# Altium schematic symbol library WR-PHD_Socket Header_2.54mm.SchLib: 187 symbols (part 1 of 4)
Pins are listed as number, name and electrical type; pins without a type are passive.

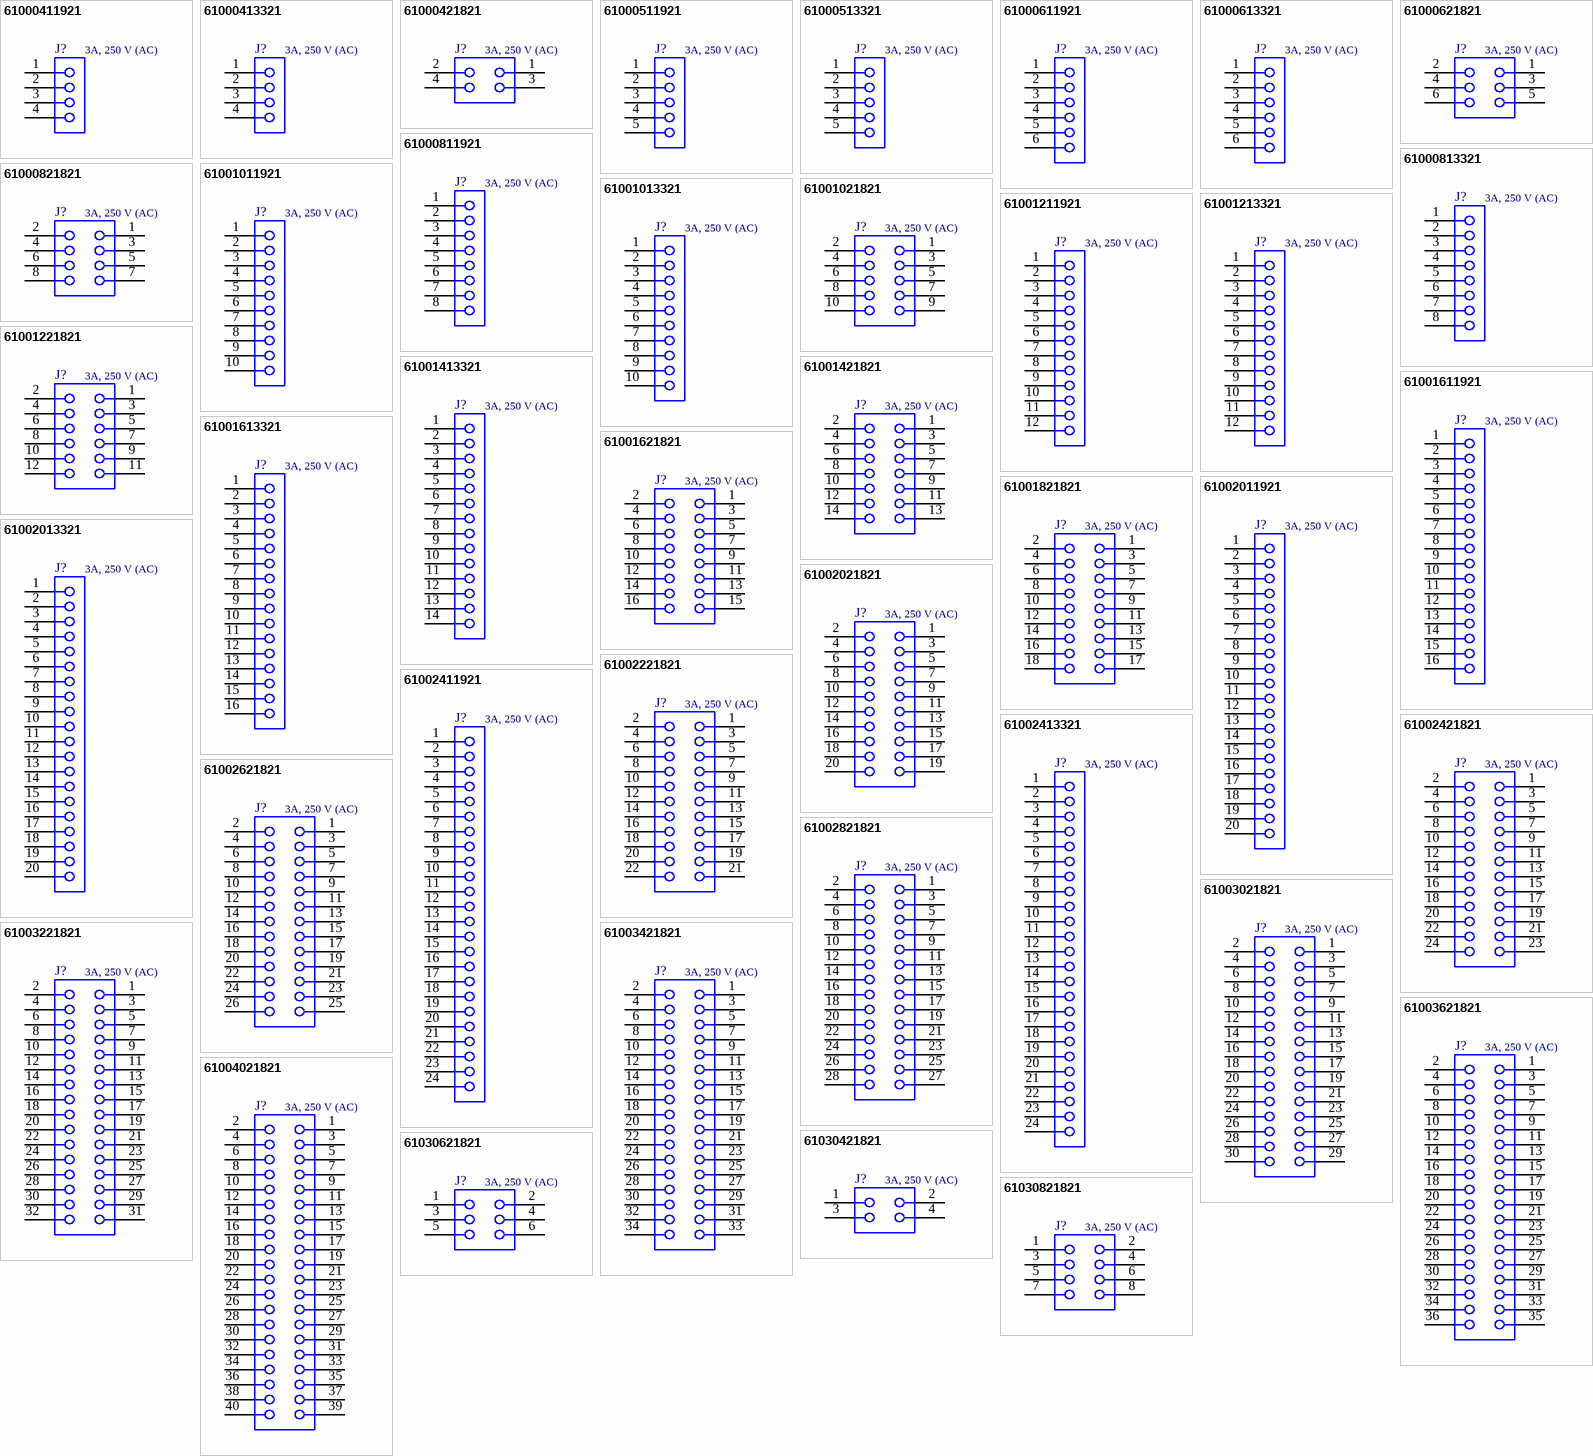
[diagram p0: symbols 61000411921 to 61030821821]

## 61000411921
designator J?, comment 3A, 250 V (AC)
WR-PHD Socket Header, SMT, pitch 2.54mm, Single Row, Vertical, 4p; Manufacturer Part Number: 61000411921; Manufacturer: Wurth Elektronik; Pin Number: 4; Working Voltage: 250VAC; Withstanding Voltage: 500VAC; Contact Resistance: 20mOhm; ComponentLink1Description: Datasheet; ComponentLink1URL: https://www.we-online.com/catalog/datasheet/61000411921.pdf; Pitch: 2.54mm; Packaging: Tube; Gender: Socket Header; Rated Current: 3A; Row Number: Single; Orientation: Vertical; Supplier 1 URL: N/A; Supplier 2 URL: N/A; Supplier 3 URL: N/A; Mount: SMD/SMT; Operating Temperature Max: + 85 C; Operating Temperature Min: - 25 C; Supplier 1: Mouser; Supplier 1 Part Number: N/A; Supplier 2: Digi-Key; Supplier 2 Part Number: N/A; Supplier 3: thegioiic; Supplier 3 Part Number: N/A; Value: 3A, 250 V (AC); LCSC Part #: N/A
footprint 61000411921
pins: 1, 2, 3, 4

## 61000413321
designator J?, comment 3A, 250 V (AC)
WR-PHD Socket Header, SMT, pitch 2.54mm, Single Row, Vertical, 4p; Manufacturer Part Number: 61000413321; Manufacturer: Wurth Elektronik; Pin Number: 4; Working Voltage: 250VAC; Withstanding Voltage: 500VAC; Contact Resistance: 20mOhm; ComponentLink1Description: Datasheet; ComponentLink1URL: https://www.we-online.com/catalog/datasheet/61000413321.pdf; Pitch: 2.54mm; Packaging: Tube; Gender: Socket Header; Rated Current: 3A; Row Number: Single; Orientation: Vertical; Supplier 1 URL: N/A; Supplier 2 URL: N/A; Supplier 3 URL: N/A; Mount: SMD/SMT; Operating Temperature Max: + 85 C; Operating Temperature Min: - 25 C; Supplier 1: Mouser; Supplier 1 Part Number: N/A; Supplier 2: Digi-Key; Supplier 2 Part Number: N/A; Supplier 3: thegioiic; Supplier 3 Part Number: N/A; Value: 3A, 250 V (AC); LCSC Part #: N/A
footprint 61000413321
pins: 1, 2, 3, 4

## 61000421821
designator J?, comment 3A, 250 V (AC)
WR-PHD Socket Header, SMT, pitch 2.54mm, Dual Row, Vertical, 4p; Manufacturer Part Number: 61000421821; Manufacturer: Wurth Elektronik; Pin Number: 4; Working Voltage: 250VAC; Withstanding Voltage: 600VAC; Contact Resistance: 20mOhm; ComponentLink1Description: Datasheet; ComponentLink1URL: https://www.we-online.com/catalog/datasheet/61000421821.pdf; Pitch: 2.54mm; Packaging: Tube; Gender: Socket Header; Rated Current: 3A; Row Number: Dual; Orientation: Vertical; Supplier 1 URL: https://www.mouser.vn/ProductDetail/Wurth-Elektronik/61000421821?qs=ulEaXIWI0c%2F%252BuIEt%2FF6jcQ%3D%3D; Supplier 2 URL: N/A; Supplier 3 URL: https://www.thegioiic.com/hang-rao-cai-doi-2-54mm-4-chan-2-hang-smd; Mount: SMD/SMT; Operating Temperature Max: + 85 C; Operating Temperature Min: - 25 C; Supplier 1: Mouser; Supplier 1 Part Number: 710-61000421821; Supplier 2: Digi-Key; Supplier 2 Part Number: N/A; Supplier 3: thegioiic; Supplier 3 Part Number: N/A; Value: 3A, 250 V (AC); LCSC Part #: N/A
footprint 61000421821
pins: 1, 2, 3, 4

## 61000511921
designator J?, comment 3A, 250 V (AC)
WR-PHD Socket Header, SMT, pitch 2.54mm, Single Row, Vertical, 5p; Manufacturer Part Number: 61000511921; Manufacturer: Wurth Elektronik; Pin Number: 5; Working Voltage: 250VAC; Withstanding Voltage: 500VAC; Contact Resistance: 20mOhm; ComponentLink1Description: Datasheet; ComponentLink1URL: https://www.we-online.com/catalog/datasheet/61000511921.pdf; Pitch: 2.54mm; Packaging: Tube; Gender: Socket Header; Rated Current: 3A; Row Number: Single; Orientation: Vertical; Supplier 1 URL: N/A; Supplier 2 URL: N/A; Supplier 3 URL: N/A; Mount: SMD/SMT; Operating Temperature Max: + 85 C; Operating Temperature Min: - 25 C; Supplier 1: Mouser; Supplier 1 Part Number: N/A; Supplier 2: Digi-Key; Supplier 2 Part Number: N/A; Supplier 3: thegioiic; Supplier 3 Part Number: N/A; Value: 3A, 250 V (AC); LCSC Part #: N/A
footprint 61000511921
pins: 1, 2, 3, 4, 5

## 61000513321
designator J?, comment 3A, 250 V (AC)
WR-PHD Socket Header, SMT, pitch 2.54mm, Single Row, Vertical, 5p; Manufacturer Part Number: 61000513321; Manufacturer: Wurth Elektronik; Pin Number: 5; Working Voltage: 250VAC; Withstanding Voltage: 500VAC; Contact Resistance: 20mOhm; ComponentLink1Description: Datasheet; ComponentLink1URL: https://www.we-online.com/catalog/datasheet/61000513321.pdf; Pitch: 2.54mm; Packaging: Tube; Gender: Socket Header; Rated Current: 3A; Row Number: Single; Orientation: Vertical; Supplier 1 URL: N/A; Supplier 2 URL: N/A; Supplier 3 URL: N/A; Mount: SMD/SMT; Operating Temperature Max: + 85 C; Operating Temperature Min: - 25 C; Supplier 1: Mouser; Supplier 1 Part Number: N/A; Supplier 2: Digi-Key; Supplier 2 Part Number: N/A; Supplier 3: thegioiic; Supplier 3 Part Number: N/A; Value: 3A, 250 V (AC); LCSC Part #: N/A
footprint 61000513321
pins: 1, 2, 3, 4, 5

## 61000611921
designator J?, comment 3A, 250 V (AC)
WR-PHD Socket Header, SMT, pitch 2.54mm, Single Row, Vertical, 6p; Manufacturer Part Number: 61000611921; Manufacturer: Wurth Elektronik; Pin Number: 6; Working Voltage: 250VAC; Withstanding Voltage: 500VAC; Contact Resistance: 20mOhm; ComponentLink1Description: Datasheet; ComponentLink1URL: https://www.we-online.com/catalog/datasheet/61000611921.pdf; Pitch: 2.54mm; Packaging: Tube; Gender: Socket Header; Rated Current: 3A; Row Number: Single; Orientation: Vertical; Supplier 1 URL: N/A; Supplier 2 URL: N/A; Supplier 3 URL: N/A; Mount: SMD/SMT; Operating Temperature Max: + 85 C; Operating Temperature Min: - 25 C; Supplier 1: Mouser; Supplier 1 Part Number: N/A; Supplier 2: Digi-Key; Supplier 2 Part Number: N/A; Supplier 3: thegioiic; Supplier 3 Part Number: N/A; Value: 3A, 250 V (AC); LCSC Part #: N/A
footprint 61000611921
pins: 1, 2, 3, 4, 5, 6

## 61000613321
designator J?, comment 3A, 250 V (AC)
WR-PHD Socket Header, SMT, pitch 2.54mm, Single Row, Vertical, 6p; Manufacturer Part Number: 61000613321; Manufacturer: Wurth Elektronik; Pin Number: 6; Working Voltage: 250VAC; Withstanding Voltage: 500VAC; Contact Resistance: 20mOhm; ComponentLink1Description: Datasheet; ComponentLink1URL: https://www.we-online.com/catalog/datasheet/61000613321.pdf; Pitch: 2.54mm; Packaging: Tube; Gender: Socket Header; Rated Current: 3A; Row Number: Single; Orientation: Vertical; Supplier 1 URL: N/A; Supplier 2 URL: N/A; Supplier 3 URL: N/A; Mount: SMD/SMT; Operating Temperature Max: + 85 C; Operating Temperature Min: - 25 C; Supplier 1: Mouser; Supplier 1 Part Number: N/A; Supplier 2: Digi-Key; Supplier 2 Part Number: N/A; Supplier 3: thegioiic; Supplier 3 Part Number: N/A; Value: 3A, 250 V (AC); LCSC Part #: N/A
footprint 61000613321
pins: 1, 2, 3, 4, 5, 6

## 61000621821
designator J?, comment 3A, 250 V (AC)
WR-PHD Socket Header, SMT, pitch 2.54mm, Dual Row, Vertical, 6p; Manufacturer Part Number: 61000621821; Manufacturer: Wurth Elektronik; Pin Number: 6; Working Voltage: 250VAC; Withstanding Voltage: 600VAC; Contact Resistance: 20mOhm; ComponentLink1Description: Datasheet; ComponentLink1URL: https://www.we-online.com/catalog/datasheet/61000621821.pdf; Pitch: 2.54mm; Packaging: Tube; Gender: Socket Header; Rated Current: 3A; Row Number: Dual; Orientation: Vertical; Supplier 1 URL: N/A; Supplier 2 URL: N/A; Supplier 3 URL: https://www.thegioiic.com/hang-rao-cai-doi-2-54mm-6-chan-2-hang-smd; Mount: SMD/SMT; Operating Temperature Max: + 85 C; Operating Temperature Min: - 25 C; Supplier 1: Mouser; Supplier 1 Part Number: N/A; Supplier 2: Digi-Key; Supplier 2 Part Number: N/A; Supplier 3: thegioiic; Supplier 3 Part Number: N/A; Value: 3A, 250 V (AC); LCSC Part #: N/A
footprint 61000621821
pins: 1, 2, 3, 4, 5, 6

## 61000811921
designator J?, comment 3A, 250 V (AC)
WR-PHD Socket Header, SMT, pitch 2.54mm, Single Row, Vertical, 8p; Manufacturer Part Number: 61000811921; Manufacturer: Wurth Elektronik; Pin Number: 8; Working Voltage: 250VAC; Withstanding Voltage: 500VAC; Contact Resistance: 20mOhm; ComponentLink1Description: Datasheet; ComponentLink1URL: https://www.we-online.com/catalog/datasheet/61000811921.pdf; Pitch: 2.54mm; Packaging: Tube; Gender: Socket Header; Rated Current: 3A; Row Number: Single; Orientation: Vertical; Supplier 1 URL: https://www.mouser.vn/ProductDetail/Wurth-Elektronik/61000811921?qs=ulEaXIWI0c%2Fsm97p7isIKw%3D%3D; Supplier 2 URL: N/A; Supplier 3 URL: N/A; Mount: SMD/SMT; Operating Temperature Max: + 85 C; Operating Temperature Min: - 25 C; Supplier 1: Mouser; Supplier 1 Part Number: 710-61000811921; Supplier 2: Digi-Key; Supplier 2 Part Number: N/A; Supplier 3: thegioiic; Supplier 3 Part Number: N/A; Value: 3A, 250 V (AC); LCSC Part #: N/A
footprint 61000811921
pins: 1, 2, 3, 4, 5, 6, 7, 8

## 61000813321
designator J?, comment 3A, 250 V (AC)
WR-PHD Socket Header, SMT, pitch 2.54mm, Single Row, Vertical, 8p; Manufacturer Part Number: 61000813321; Manufacturer: Wurth Elektronik; Pin Number: 8; Working Voltage: 250VAC; Withstanding Voltage: 500VAC; Contact Resistance: 20mOhm; ComponentLink1Description: Datasheet; ComponentLink1URL: https://www.we-online.com/catalog/datasheet/61000813321.pdf; Pitch: 2.54mm; Packaging: Tube; Gender: Socket Header; Rated Current: 3A; Row Number: Single; Orientation: Vertical; Supplier 1 URL: N/A; Supplier 2 URL: N/A; Supplier 3 URL: N/A; Mount: SMD/SMT; Operating Temperature Max: + 85 C; Operating Temperature Min: - 25 C; Supplier 1: Mouser; Supplier 1 Part Number: N/A; Supplier 2: Digi-Key; Supplier 2 Part Number: N/A; Supplier 3: thegioiic; Supplier 3 Part Number: N/A; Value: 3A, 250 V (AC); LCSC Part #: N/A
footprint 61000813321
pins: 1, 2, 3, 4, 5, 6, 7, 8

## 61000821821
designator J?, comment 3A, 250 V (AC)
WR-PHD Socket Header, SMT, pitch 2.54mm, Dual Row, Vertical, 8p; Manufacturer Part Number: 61000821821; Manufacturer: Wurth Elektronik; Pin Number: 8; Working Voltage: 250VAC; Withstanding Voltage: 600VAC; Contact Resistance: 20mOhm; ComponentLink1Description: Datasheet; ComponentLink1URL: https://www.we-online.com/catalog/datasheet/61000821821.pdf; Pitch: 2.54mm; Packaging: Tube; Gender: Socket Header; Rated Current: 3A; Row Number: Dual; Orientation: Vertical; Supplier 1 URL: N/A; Supplier 2 URL: N/A; Supplier 3 URL: https://www.thegioiic.com/hang-rao-cai-doi-2-54mm-8-chan-2-hang-smd; Mount: SMD/SMT; Operating Temperature Max: + 85 C; Operating Temperature Min: - 25 C; Supplier 1: Mouser; Supplier 1 Part Number: N/A; Supplier 2: Digi-Key; Supplier 2 Part Number: N/A; Supplier 3: thegioiic; Supplier 3 Part Number: N/A; Value: 3A, 250 V (AC); LCSC Part #: N/A
footprint 61000821821
pins: 1, 2, 3, 4, 5, 6, 7, 8

## 61001011921
designator J?, comment 3A, 250 V (AC)
WR-PHD Socket Header, SMT, pitch 2.54mm, Single Row, Vertical, 10p; Manufacturer Part Number: 61001011921; Manufacturer: Wurth Elektronik; Pin Number: 10; Working Voltage: 250VAC; Withstanding Voltage: 500VAC; Contact Resistance: 20mOhm; ComponentLink1Description: Datasheet; ComponentLink1URL: https://www.we-online.com/catalog/datasheet/61001011921.pdf; Pitch: 2.54mm; Packaging: Tube; Gender: Socket Header; Rated Current: 3A; Row Number: Single; Orientation: Vertical; Supplier 1 URL: N/A; Supplier 2 URL: N/A; Supplier 3 URL: N/A; Mount: SMD/SMT; Operating Temperature Max: + 85 C; Operating Temperature Min: - 25 C; Supplier 1: Mouser; Supplier 1 Part Number: N/A; Supplier 2: Digi-Key; Supplier 2 Part Number: N/A; Supplier 3: thegioiic; Supplier 3 Part Number: N/A; Value: 3A, 250 V (AC); LCSC Part #: N/A
footprint 61001011921
pins: 1, 2, 3, 4, 5, 6, 7, 8, 9, 10

## 61001013321
designator J?, comment 3A, 250 V (AC)
WR-PHD Socket Header, SMT, pitch 2.54mm, Single Row, Vertical, 10p; Manufacturer Part Number: 61001013321; Manufacturer: Wurth Elektronik; Pin Number: 10; Working Voltage: 250VAC; Withstanding Voltage: 500VAC; Contact Resistance: 20mOhm; ComponentLink1Description: Datasheet; ComponentLink1URL: https://www.we-online.com/catalog/datasheet/61001013321.pdf; Pitch: 2.54mm; Packaging: Tube; Gender: Socket Header; Rated Current: 3A; Row Number: Single; Orientation: Vertical; Supplier 1 URL: N/A; Supplier 2 URL: N/A; Supplier 3 URL: N/A; Mount: SMD/SMT; Operating Temperature Max: + 85 C; Operating Temperature Min: - 25 C; Supplier 1: Mouser; Supplier 1 Part Number: N/A; Supplier 2: Digi-Key; Supplier 2 Part Number: N/A; Supplier 3: thegioiic; Supplier 3 Part Number: N/A; Value: 3A, 250 V (AC); LCSC Part #: N/A
footprint 61001013321
pins: 1, 2, 3, 4, 5, 6, 7, 8, 9, 10

## 61001021821
designator J?, comment 3A, 250 V (AC)
WR-PHD Socket Header, SMT, pitch 2.54mm, Dual Row, Vertical, 10p; Manufacturer Part Number: 61001021821; Manufacturer: Wurth Elektronik; Pin Number: 10; Working Voltage: 250VAC; Withstanding Voltage: 600VAC; Contact Resistance: 20mOhm; ComponentLink1Description: Datasheet; ComponentLink1URL: https://www.we-online.com/catalog/datasheet/61001021821.pdf; Pitch: 2.54mm; Packaging: Tube; Gender: Socket Header; Rated Current: 3A; Row Number: Dual; Orientation: Vertical; Supplier 1 URL: N/A; Supplier 2 URL: N/A; Supplier 3 URL: https://www.thegioiic.com/hang-rao-cai-doi-2-54mm-10-chan-2-hang-smd; Mount: SMD/SMT; Operating Temperature Max: + 85 C; Operating Temperature Min: - 25 C; Supplier 1: Mouser; Supplier 1 Part Number: N/A; Supplier 2: Digi-Key; Supplier 2 Part Number: N/A; Supplier 3: thegioiic; Supplier 3 Part Number: N/A; Value: 3A, 250 V (AC); LCSC Part #: N/A
footprint 61001021821
pins: 1, 2, 3, 4, 5, 6, 7, 8, 9, 10

## 61001211921
designator J?, comment 3A, 250 V (AC)
WR-PHD Socket Header, SMT, pitch 2.54mm, Single Row, Vertical, 12p; Manufacturer Part Number: 61001211921; Manufacturer: Wurth Elektronik; Pin Number: 12; Working Voltage: 250VAC; Withstanding Voltage: 500VAC; Contact Resistance: 20mOhm; ComponentLink1Description: Datasheet; ComponentLink1URL: https://www.we-online.com/catalog/datasheet/61001211921.pdf; Pitch: 2.54mm; Packaging: Tube; Gender: Socket Header; Rated Current: 3A; Row Number: Single; Orientation: Vertical; Supplier 1 URL: N/A; Supplier 2 URL: N/A; Supplier 3 URL: N/A; Mount: SMD/SMT; Operating Temperature Max: + 85 C; Operating Temperature Min: - 25 C; Supplier 1: Mouser; Supplier 1 Part Number: N/A; Supplier 2: Digi-Key; Supplier 2 Part Number: N/A; Supplier 3: thegioiic; Supplier 3 Part Number: N/A; Value: 3A, 250 V (AC); LCSC Part #: N/A
footprint 61001211921
pins: 1, 2, 3, 4, 5, 6, 7, 8, 9, 10, 11, 12

## 61001213321
designator J?, comment 3A, 250 V (AC)
WR-PHD Socket Header, SMT, pitch 2.54mm, Single Row, Vertical, 12p; Manufacturer Part Number: 61001213321; Manufacturer: Wurth Elektronik; Pin Number: 12; Working Voltage: 250VAC; Withstanding Voltage: 500VAC; Contact Resistance: 20mOhm; ComponentLink1Description: Datasheet; ComponentLink1URL: https://www.we-online.com/catalog/datasheet/61001213321.pdf; Pitch: 2.54mm; Packaging: Tube; Gender: Socket Header; Rated Current: 3A; Row Number: Single; Orientation: Vertical; Supplier 1 URL: N/A; Supplier 2 URL: N/A; Supplier 3 URL: N/A; Mount: SMD/SMT; Operating Temperature Max: + 85 C; Operating Temperature Min: - 25 C; Supplier 1: Mouser; Supplier 1 Part Number: N/A; Supplier 2: Digi-Key; Supplier 2 Part Number: N/A; Supplier 3: thegioiic; Supplier 3 Part Number: N/A; Value: 3A, 250 V (AC); LCSC Part #: N/A
footprint 61001213321
pins: 1, 2, 3, 4, 5, 6, 7, 8, 9, 10, 11, 12

## 61001221821
designator J?, comment 3A, 250 V (AC)
WR-PHD Socket Header, SMT, pitch 2.54mm, Dual Row, Vertical, 12p; Manufacturer Part Number: 61001221821; Manufacturer: Wurth Elektronik; Pin Number: 12; Working Voltage: 250VAC; Withstanding Voltage: 600VAC; Contact Resistance: 20mOhm; ComponentLink1Description: Datasheet; ComponentLink1URL: https://www.we-online.com/catalog/datasheet/61001221821.pdf; Pitch: 2.54mm; Packaging: Tube; Gender: Socket Header; Rated Current: 3A; Row Number: Dual; Orientation: Vertical; Supplier 1 URL: N/A; Supplier 2 URL: N/A; Supplier 3 URL: https://www.thegioiic.com/hang-rao-cai-doi-2-54mm-12-chan-2-hang-smd; Mount: SMD/SMT; Operating Temperature Max: + 85 C; Operating Temperature Min: - 25 C; Supplier 1: Mouser; Supplier 1 Part Number: N/A; Supplier 2: Digi-Key; Supplier 2 Part Number: N/A; Supplier 3: thegioiic; Supplier 3 Part Number: N/A; Value: 3A, 250 V (AC); LCSC Part #: N/A
footprint 61001221821
pins: 1, 2, 3, 4, 5, 6, 7, 8, 9, 10, 11, 12

## 61001413321
designator J?, comment 3A, 250 V (AC)
WR-PHD Socket Header, SMT, pitch 2.54mm, Single Row, Vertical, 14p; Manufacturer Part Number: 61001413321; Manufacturer: Wurth Elektronik; Pin Number: 14; Working Voltage: 250VAC; Withstanding Voltage: 500VAC; Contact Resistance: 20mOhm; ComponentLink1Description: Datasheet; ComponentLink1URL: https://www.we-online.com/catalog/datasheet/61001413321.pdf; Pitch: 2.54mm; Packaging: Tube; Gender: Socket Header; Rated Current: 3A; Row Number: Single; Orientation: Vertical; Supplier 1 URL: N/A; Supplier 2 URL: N/A; Supplier 3 URL: N/A; Mount: SMD/SMT; Operating Temperature Max: + 85 C; Operating Temperature Min: - 25 C; Supplier 1: Mouser; Supplier 1 Part Number: N/A; Supplier 2: Digi-Key; Supplier 2 Part Number: N/A; Supplier 3: thegioiic; Supplier 3 Part Number: N/A; Value: 3A, 250 V (AC); LCSC Part #: N/A
footprint 61001413321
pins: 1, 2, 3, 4, 5, 6, 7, 8, 9, 10, 11, 12, 13, 14

## 61001421821
designator J?, comment 3A, 250 V (AC)
WR-PHD Socket Header, SMT, pitch 2.54mm, Dual Row, Vertical, 14p; Manufacturer Part Number: 61001421821; Manufacturer: Wurth Elektronik; Pin Number: 14; Working Voltage: 250VAC; Withstanding Voltage: 600VAC; Contact Resistance: 20mOhm; ComponentLink1Description: Datasheet; ComponentLink1URL: https://www.we-online.com/catalog/datasheet/61001421821.pdf; Pitch: 2.54mm; Packaging: Tube; Gender: Socket Header; Rated Current: 3A; Row Number: Dual; Orientation: Vertical; Supplier 1 URL: N/A; Supplier 2 URL: N/A; Supplier 3 URL: https://www.thegioiic.com/hang-rao-cai-doi-2-54mm-14-chan-2-hang-smd; Mount: SMD/SMT; Operating Temperature Max: + 85 C; Operating Temperature Min: - 25 C; Supplier 1: Mouser; Supplier 1 Part Number: N/A; Supplier 2: Digi-Key; Supplier 2 Part Number: N/A; Supplier 3: thegioiic; Supplier 3 Part Number: N/A; Value: 3A, 250 V (AC); LCSC Part #: N/A
footprint 61001421821
pins: 1, 2, 3, 4, 5, 6, 7, 8, 9, 10, 11, 12, 13, 14

## 61001611921
designator J?, comment 3A, 250 V (AC)
WR-PHD Socket Header, SMT, pitch 2.54mm, Single Row, Vertical, 16p; Manufacturer Part Number: 61001611921; Manufacturer: Wurth Elektronik; Pin Number: 16; Working Voltage: 250VAC; Withstanding Voltage: 500VAC; Contact Resistance: 20mOhm; ComponentLink1Description: Datasheet; ComponentLink1URL: https://www.we-online.com/catalog/datasheet/61001611921.pdf; Pitch: 2.54mm; Packaging: Tube; Gender: Socket Header; Rated Current: 3A; Row Number: Single; Orientation: Vertical; Supplier 1 URL: N/A; Supplier 2 URL: N/A; Supplier 3 URL: N/A; Mount: SMD/SMT; Operating Temperature Max: + 85 C; Operating Temperature Min: - 25 C; Supplier 1: Mouser; Supplier 1 Part Number: N/A; Supplier 2: Digi-Key; Supplier 2 Part Number: N/A; Supplier 3: thegioiic; Supplier 3 Part Number: N/A; Value: 3A, 250 V (AC); LCSC Part #: N/A
footprint 61001611921
pins: 1, 2, 3, 4, 5, 6, 7, 8, 9, 10, 11, 12, 13, 14, 15, 16

## 61001613321
designator J?, comment 3A, 250 V (AC)
WR-PHD Socket Header, SMT, pitch 2.54mm, Single Row, Vertical, 16p; Manufacturer Part Number: 61001613321; Manufacturer: Wurth Elektronik; Pin Number: 16; Working Voltage: 250VAC; Withstanding Voltage: 500VAC; Contact Resistance: 20mOhm; ComponentLink1Description: Datasheet; ComponentLink1URL: https://www.we-online.com/catalog/datasheet/61001613321.pdf; Pitch: 2.54mm; Packaging: Tube; Gender: Socket Header; Rated Current: 3A; Row Number: Single; Orientation: Vertical; Supplier 1 URL: N/A; Supplier 2 URL: N/A; Supplier 3 URL: N/A; Mount: SMD/SMT; Operating Temperature Max: + 85 C; Operating Temperature Min: - 25 C; Supplier 1: Mouser; Supplier 1 Part Number: N/A; Supplier 2: Digi-Key; Supplier 2 Part Number: N/A; Supplier 3: thegioiic; Supplier 3 Part Number: N/A; Value: 3A, 250 V (AC); LCSC Part #: N/A
footprint 61001613321
pins: 1, 2, 3, 4, 5, 6, 7, 8, 9, 10, 11, 12, 13, 14, 15, 16

## 61001621821
designator J?, comment 3A, 250 V (AC)
WR-PHD Socket Header, SMT, pitch 2.54mm, Dual Row, Vertical, 16p; Manufacturer Part Number: 61001621821; Manufacturer: Wurth Elektronik; Pin Number: 16; Working Voltage: 250VAC; Withstanding Voltage: 600VAC; Contact Resistance: 20mOhm; ComponentLink1Description: Datasheet; ComponentLink1URL: https://www.we-online.com/catalog/datasheet/61001621821.pdf; Pitch: 2.54mm; Packaging: Tube; Gender: Socket Header; Rated Current: 3A; Row Number: Dual; Orientation: Vertical; Supplier 1 URL: N/A; Supplier 2 URL: N/A; Supplier 3 URL: https://www.thegioiic.com/hang-rao-cai-doi-2-54mm-16-chan-2-hang-smd; Mount: SMD/SMT; Operating Temperature Max: + 85 C; Operating Temperature Min: - 25 C; Supplier 1: Mouser; Supplier 1 Part Number: N/A; Supplier 2: Digi-Key; Supplier 2 Part Number: N/A; Supplier 3: thegioiic; Supplier 3 Part Number: N/A; Value: 3A, 250 V (AC); LCSC Part #: N/A
footprint 61001621821
pins: 1, 2, 3, 4, 5, 6, 7, 8, 9, 10, 11, 12, 13, 14, 15, 16

## 61001821821
designator J?, comment 3A, 250 V (AC)
WR-PHD Socket Header, SMT, pitch 2.54mm, Dual Row, Vertical, 18p; Manufacturer Part Number: 61001821821; Manufacturer: Wurth Elektronik; Pin Number: 18; Working Voltage: 250VAC; Withstanding Voltage: 600VAC; Contact Resistance: 20mOhm; ComponentLink1Description: Datasheet; ComponentLink1URL: https://www.we-online.com/catalog/datasheet/61001821821.pdf; Pitch: 2.54mm; Packaging: Tube; Gender: Socket Header; Rated Current: 3A; Row Number: Dual; Orientation: Vertical; Supplier 1 URL: N/A; Supplier 2 URL: N/A; Supplier 3 URL: N/A; Mount: SMD/SMT; Operating Temperature Max: + 85 C; Operating Temperature Min: - 25 C; Supplier 1: Mouser; Supplier 1 Part Number: N/A; Supplier 2: Digi-Key; Supplier 2 Part Number: N/A; Supplier 3: thegioiic; Supplier 3 Part Number: N/A; Value: 3A, 250 V (AC); LCSC Part #: N/A
footprint 61001821821
pins: 1, 2, 3, 4, 5, 6, 7, 8, 9, 10, 11, 12, 13, 14, 15, 16, 17, 18

## 61002011921
designator J?, comment 3A, 250 V (AC)
WR-PHD Socket Header, SMT, pitch 2.54mm, Single Row, Vertical, 20p; Manufacturer Part Number: 61002011921; Manufacturer: Wurth Elektronik; Pin Number: 20; Working Voltage: 250VAC; Withstanding Voltage: 500VAC; Contact Resistance: 20mOhm; ComponentLink1Description: Datasheet; ComponentLink1URL: https://www.we-online.com/catalog/datasheet/61002011921.pdf; Pitch: 2.54mm; Packaging: Tube; Gender: Socket Header; Rated Current: 3A; Row Number: Single; Orientation: Vertical; Supplier 1 URL: N/A; Supplier 2 URL: N/A; Supplier 3 URL: N/A; Mount: SMD/SMT; Operating Temperature Max: + 85 C; Operating Temperature Min: - 25 C; Supplier 1: Mouser; Supplier 1 Part Number: N/A; Supplier 2: Digi-Key; Supplier 2 Part Number: N/A; Supplier 3: thegioiic; Supplier 3 Part Number: N/A; Value: 3A, 250 V (AC); LCSC Part #: N/A
footprint 61002011921
pins: 1, 2, 3, 4, 5, 6, 7, 8, 9, 10, 11, 12, 13, 14, 15, 16, 17, 18, 19, 20

## 61002013321
designator J?, comment 3A, 250 V (AC)
WR-PHD Socket Header, SMT, pitch 2.54mm, Single Row, Vertical, 20p; Manufacturer Part Number: 61002013321; Manufacturer: Wurth Elektronik; Pin Number: 20; Working Voltage: 250VAC; Withstanding Voltage: 500VAC; Contact Resistance: 20mOhm; ComponentLink1Description: Datasheet; ComponentLink1URL: https://www.we-online.com/catalog/datasheet/61002013321.pdf; Pitch: 2.54mm; Packaging: Tube; Gender: Socket Header; Rated Current: 3A; Row Number: Single; Orientation: Vertical; Supplier 1 URL: N/A; Supplier 2 URL: N/A; Supplier 3 URL: N/A; Mount: SMD/SMT; Operating Temperature Max: + 85 C; Operating Temperature Min: - 25 C; Supplier 1: Mouser; Supplier 1 Part Number: N/A; Supplier 2: Digi-Key; Supplier 2 Part Number: N/A; Supplier 3: thegioiic; Supplier 3 Part Number: N/A; Value: 3A, 250 V (AC); LCSC Part #: N/A
footprint 61002013321
pins: 1, 2, 3, 4, 5, 6, 7, 8, 9, 10, 11, 12, 13, 14, 15, 16, 17, 18, 19, 20

## 61002021821
designator J?, comment 3A, 250 V (AC)
WR-PHD Socket Header, SMT, pitch 2.54mm, Dual Row, Vertical, 20p; Manufacturer Part Number: 61002021821; Manufacturer: Wurth Elektronik; Pin Number: 20; Working Voltage: 250VAC; Withstanding Voltage: 600VAC; Contact Resistance: 20mOhm; ComponentLink1Description: Datasheet; ComponentLink1URL: https://www.we-online.com/catalog/datasheet/61002021821.pdf; Pitch: 2.54mm; Packaging: Tube; Gender: Socket Header; Rated Current: 3A; Row Number: Dual; Orientation: Vertical; Supplier 1 URL: https://www.mouser.vn/ProductDetail/Wurth-Elektronik/61002021821?qs=ulEaXIWI0c83G7405t8SLQ%3D%3D; Supplier 2 URL: N/A; Supplier 3 URL: https://www.thegioiic.com/hang-rao-cai-doi-2-54mm-16-chan-2-hang-smd; Mount: SMD/SMT; Operating Temperature Max: + 85 C; Operating Temperature Min: - 25 C; Supplier 1: Mouser; Supplier 1 Part Number: 710-61002021821; Supplier 2: Digi-Key; Supplier 2 Part Number: N/A; Supplier 3: thegioiic; Supplier 3 Part Number: N/A; Value: 3A, 250 V (AC); LCSC Part #: N/A
footprint 61002021821
pins: 1, 2, 3, 4, 5, 6, 7, 8, 9, 10, 11, 12, 13, 14, 15, 16, 17, 18, 19, 20

## 61002221821
designator J?, comment 3A, 250 V (AC)
WR-PHD Socket Header, SMT, pitch 2.54mm, Dual Row, Vertical, 22p; Manufacturer Part Number: 61002221821; Manufacturer: Wurth Elektronik; Pin Number: 22; Working Voltage: 250VAC; Withstanding Voltage: 600VAC; Contact Resistance: 20mOhm; ComponentLink1Description: Datasheet; ComponentLink1URL: https://www.we-online.com/catalog/datasheet/61002221821.pdf; Pitch: 2.54mm; Packaging: Tube; Gender: Socket Header; Rated Current: 3A; Row Number: Dual; Orientation: Vertical; Supplier 1 URL: N/A; Supplier 2 URL: N/A; Supplier 3 URL: N/A; Mount: SMD/SMT; Operating Temperature Max: + 85 C; Operating Temperature Min: - 25 C; Supplier 1: Mouser; Supplier 1 Part Number: N/A; Supplier 2: Digi-Key; Supplier 2 Part Number: N/A; Supplier 3: thegioiic; Supplier 3 Part Number: N/A; Value: 3A, 250 V (AC); LCSC Part #: N/A
footprint 61002221821
pins: 1, 2, 3, 4, 5, 6, 7, 8, 9, 10, 11, 12, 13, 14, 15, 16, 17, 18, 19, 20, 21, 22

## 61002411921
designator J?, comment 3A, 250 V (AC)
WR-PHD Socket Header, SMT, pitch 2.54mm, Single Row, Vertical, 24p; Manufacturer Part Number: 61002411921; Manufacturer: Wurth Elektronik; Pin Number: 24; Working Voltage: 250VAC; Withstanding Voltage: 500VAC; Contact Resistance: 20mOhm; ComponentLink1Description: Datasheet; ComponentLink1URL: https://www.we-online.com/catalog/datasheet/61002411921.pdf; Pitch: 2.54mm; Packaging: Tube; Gender: Socket Header; Rated Current: 3A; Row Number: Single; Orientation: Vertical; Supplier 1 URL: N/A; Supplier 2 URL: N/A; Supplier 3 URL: N/A; Mount: SMD/SMT; Operating Temperature Max: + 85 C; Operating Temperature Min: - 25 C; Supplier 1: Mouser; Supplier 1 Part Number: N/A; Supplier 2: Digi-Key; Supplier 2 Part Number: N/A; Supplier 3: thegioiic; Supplier 3 Part Number: N/A; Value: 3A, 250 V (AC); LCSC Part #: N/A
footprint 61002411921
pins: 1, 2, 3, 4, 5, 6, 7, 8, 9, 10, 11, 12, 13, 14, 15, 16, 17, 18, 19, 20, 21, 22, 23, 24

## 61002413321
designator J?, comment 3A, 250 V (AC)
WR-PHD Socket Header, SMT, pitch 2.54mm, Single Row, Vertical, 24p; Manufacturer Part Number: 61002413321; Manufacturer: Wurth Elektronik; Pin Number: 24; Working Voltage: 250VAC; Withstanding Voltage: 500VAC; Contact Resistance: 20mOhm; ComponentLink1Description: Datasheet; ComponentLink1URL: https://www.we-online.com/catalog/datasheet/61002413321.pdf; Pitch: 2.54mm; Packaging: Tube; Gender: Socket Header; Rated Current: 3A; Row Number: Single; Orientation: Vertical; Supplier 1 URL: N/A; Supplier 2 URL: N/A; Supplier 3 URL: N/A; Mount: SMD/SMT; Operating Temperature Max: + 85 C; Operating Temperature Min: - 25 C; Supplier 1: Mouser; Supplier 1 Part Number: N/A; Supplier 2: Digi-Key; Supplier 2 Part Number: N/A; Supplier 3: thegioiic; Supplier 3 Part Number: N/A; Value: 3A, 250 V (AC); LCSC Part #: N/A
footprint 61002413321
pins: 1, 2, 3, 4, 5, 6, 7, 8, 9, 10, 11, 12, 13, 14, 15, 16, 17, 18, 19, 20, 21, 22, 23, 24

## 61002421821
designator J?, comment 3A, 250 V (AC)
WR-PHD Socket Header, SMT, pitch 2.54mm, Dual Row, Vertical, 24p; Manufacturer Part Number: 61002421821; Manufacturer: Wurth Elektronik; Pin Number: 24; Working Voltage: 250VAC; Withstanding Voltage: 600VAC; Contact Resistance: 20mOhm; ComponentLink1Description: Datasheet; ComponentLink1URL: https://www.we-online.com/catalog/datasheet/61002421821.pdf; Pitch: 2.54mm; Packaging: Tube; Gender: Socket Header; Rated Current: 3A; Row Number: Dual; Orientation: Vertical; Supplier 1 URL: N/A; Supplier 2 URL: N/A; Supplier 3 URL: N/A; Mount: SMD/SMT; Operating Temperature Max: + 85 C; Operating Temperature Min: - 25 C; Supplier 1: Mouser; Supplier 1 Part Number: N/A; Supplier 2: Digi-Key; Supplier 2 Part Number: N/A; Supplier 3: thegioiic; Supplier 3 Part Number: N/A; Value: 3A, 250 V (AC); LCSC Part #: N/A
footprint 61002421821
pins: 1, 2, 3, 4, 5, 6, 7, 8, 9, 10, 11, 12, 13, 14, 15, 16, 17, 18, 19, 20, 21, 22, 23, 24

## 61002621821
designator J?, comment 3A, 250 V (AC)
WR-PHD Socket Header, SMT, pitch 2.54mm, Dual Row, Vertical, 26p; Manufacturer Part Number: 61002621821; Manufacturer: Wurth Elektronik; Pin Number: 26; Working Voltage: 250VAC; Withstanding Voltage: 600VAC; Contact Resistance: 20mOhm; ComponentLink1Description: Datasheet; ComponentLink1URL: https://www.we-online.com/catalog/datasheet/61002621821.pdf; Pitch: 2.54mm; Packaging: Tube; Gender: Socket Header; Rated Current: 3A; Row Number: Dual; Orientation: Vertical; Supplier 1 URL: N/A; Supplier 2 URL: N/A; Supplier 3 URL: N/A; Mount: SMD/SMT; Operating Temperature Max: + 85 C; Operating Temperature Min: - 25 C; Supplier 1: Mouser; Supplier 1 Part Number: N/A; Supplier 2: Digi-Key; Supplier 2 Part Number: N/A; Supplier 3: thegioiic; Supplier 3 Part Number: N/A; Value: 3A, 250 V (AC); LCSC Part #: N/A
footprint 61002621821
pins: 1, 2, 3, 4, 5, 6, 7, 8, 9, 10, 11, 12, 13, 14, 15, 16, 17, 18, 19, 20, 21, 22, 23, 24, 25, 26

## 61002821821
designator J?, comment 3A, 250 V (AC)
WR-PHD Socket Header, SMT, pitch 2.54mm, Dual Row, Vertical, 28p; Manufacturer Part Number: 61002821821; Manufacturer: Wurth Elektronik; Pin Number: 28; Working Voltage: 250VAC; Withstanding Voltage: 600VAC; Contact Resistance: 20mOhm; ComponentLink1Description: Datasheet; ComponentLink1URL: https://www.we-online.com/catalog/datasheet/61002821821.pdf; Pitch: 2.54mm; Packaging: Tube; Gender: Socket Header; Rated Current: 3A; Row Number: Dual; Orientation: Vertical; Supplier 1 URL: N/A; Supplier 2 URL: N/A; Supplier 3 URL: https://www.thegioiic.com/hang-rao-cai-doi-2-54mm-28-chan-2-hang-smd; Mount: SMD/SMT; Operating Temperature Max: + 85 C; Operating Temperature Min: - 25 C; Supplier 1: Mouser; Supplier 1 Part Number: N/A; Supplier 2: Digi-Key; Supplier 2 Part Number: N/A; Supplier 3: thegioiic; Supplier 3 Part Number: N/A; Value: 3A, 250 V (AC); LCSC Part #: N/A
footprint 61002821821
pins: 1, 2, 3, 4, 5, 6, 7, 8, 9, 10, 11, 12, 13, 14, 15, 16, 17, 18, 19, 20, 21, 22, 23, 24, 25, 26, 27, 28

## 61003021821
designator J?, comment 3A, 250 V (AC)
WR-PHD Socket Header, SMT, pitch 2.54mm, Dual Row, Vertical, 30p; Manufacturer Part Number: 61003021821; Manufacturer: Wurth Elektronik; Pin Number: 30; Working Voltage: 250VAC; Withstanding Voltage: 600VAC; Contact Resistance: 20mOhm; ComponentLink1Description: Datasheet; ComponentLink1URL: https://www.we-online.com/catalog/datasheet/61003021821.pdf; Pitch: 2.54mm; Packaging: Tube; Gender: Socket Header; Rated Current: 3A; Row Number: Dual; Orientation: Vertical; Supplier 1 URL: N/A; Supplier 2 URL: N/A; Supplier 3 URL: N/A; Mount: SMD/SMT; Operating Temperature Max: + 85 C; Operating Temperature Min: - 25 C; Supplier 1: Mouser; Supplier 1 Part Number: N/A; Supplier 2: Digi-Key; Supplier 2 Part Number: N/A; Supplier 3: thegioiic; Supplier 3 Part Number: N/A; Value: 3A, 250 V (AC); LCSC Part #: N/A
footprint 61003021821
pins: 1, 2, 3, 4, 5, 6, 7, 8, 9, 10, 11, 12, 13, 14, 15, 16, 17, 18, 19, 20, 21, 22, 23, 24, 25, 26, 27, 28, 29, 30

## 61003221821
designator J?, comment 3A, 250 V (AC)
WR-PHD Socket Header, SMT, pitch 2.54mm, Dual Row, Vertical, 32p; Manufacturer Part Number: 61003221821; Manufacturer: Wurth Elektronik; Pin Number: 32; Working Voltage: 250VAC; Withstanding Voltage: 600VAC; Contact Resistance: 20mOhm; ComponentLink1Description: Datasheet; ComponentLink1URL: https://www.we-online.com/catalog/datasheet/61003221821.pdf; Pitch: 2.54mm; Packaging: Tube; Gender: Socket Header; Rated Current: 3A; Row Number: Dual; Orientation: Vertical; Supplier 1 URL: N/A; Supplier 2 URL: N/A; Supplier 3 URL: N/A; Mount: SMD/SMT; Operating Temperature Max: + 85 C; Operating Temperature Min: - 25 C; Supplier 1: Mouser; Supplier 1 Part Number: N/A; Supplier 2: Digi-Key; Supplier 2 Part Number: N/A; Supplier 3: thegioiic; Supplier 3 Part Number: N/A; Value: 3A, 250 V (AC); LCSC Part #: N/A
footprint 61003221821
pins: 1, 2, 3, 4, 5, 6, 7, 8, 9, 10, 11, 12, 13, 14, 15, 16, 17, 18, 19, 20, 21, 22, 23, 24, 25, 26, 27, 28, 29, 30, 31, 32

## 61003421821
designator J?, comment 3A, 250 V (AC)
WR-PHD Socket Header, SMT, pitch 2.54mm, Dual Row, Vertical, 34p; Manufacturer Part Number: 61003421821; Manufacturer: Wurth Elektronik; Pin Number: 34; Working Voltage: 250VAC; Withstanding Voltage: 600VAC; Contact Resistance: 20mOhm; ComponentLink1Description: Datasheet; ComponentLink1URL: https://www.we-online.com/catalog/datasheet/61003421821.pdf; Pitch: 2.54mm; Packaging: Tube; Gender: Socket Header; Rated Current: 3A; Row Number: Dual; Orientation: Vertical; Supplier 1 URL: N/A; Supplier 2 URL: N/A; Supplier 3 URL: N/A; Mount: SMD/SMT; Operating Temperature Max: + 85 C; Operating Temperature Min: - 25 C; Supplier 1: Mouser; Supplier 1 Part Number: N/A; Supplier 2: Digi-Key; Supplier 2 Part Number: N/A; Supplier 3: thegioiic; Supplier 3 Part Number: N/A; Value: 3A, 250 V (AC); LCSC Part #: N/A
footprint 61003421821
pins: 1, 2, 3, 4, 5, 6, 7, 8, 9, 10, 11, 12, 13, 14, 15, 16, 17, 18, 19, 20, 21, 22, 23, 24, 25, 26, 27, 28, 29, 30, 31, 32, 33, 34

## 61003621821
designator J?, comment 3A, 250 V (AC)
WR-PHD Socket Header, SMT, pitch 2.54mm, Dual Row, Vertical, 36p; Manufacturer Part Number: 61003621821; Manufacturer: Wurth Elektronik; Pin Number: 36; Working Voltage: 250VAC; Withstanding Voltage: 600VAC; Contact Resistance: 20mOhm; ComponentLink1Description: Datasheet; ComponentLink1URL: https://www.we-online.com/catalog/datasheet/61003621821.pdf; Pitch: 2.54mm; Packaging: Tube; Gender: Socket Header; Rated Current: 3A; Row Number: Dual; Orientation: Vertical; Supplier 1 URL: N/A; Supplier 2 URL: N/A; Supplier 3 URL: N/A; Mount: SMD/SMT; Operating Temperature Max: + 85 C; Operating Temperature Min: - 25 C; Supplier 1: Mouser; Supplier 1 Part Number: N/A; Supplier 2: Digi-Key; Supplier 2 Part Number: N/A; Supplier 3: thegioiic; Supplier 3 Part Number: N/A; Value: 3A, 250 V (AC); LCSC Part #: N/A
footprint 61003621821
pins: 1, 2, 3, 4, 5, 6, 7, 8, 9, 10, 11, 12, 13, 14, 15, 16, 17, 18, 19, 20, 21, 22, 23, 24, 25, 26, 27, 28, 29, 30, 31, 32, 33, 34, 35, 36

## 61004021821
designator J?, comment 3A, 250 V (AC)
WR-PHD Socket Header, SMT, pitch 2.54mm, Dual Row, Vertical, 40p; Manufacturer Part Number: 61004021821; Manufacturer: Wurth Elektronik; Pin Number: 40; Working Voltage: 250VAC; Withstanding Voltage: 600VAC; Contact Resistance: 20mOhm; ComponentLink1Description: Datasheet; ComponentLink1URL: https://www.we-online.com/catalog/datasheet/61004021821.pdf; Pitch: 2.54mm; Packaging: Tube; Gender: Socket Header; Rated Current: 3A; Row Number: Dual; Orientation: Vertical; Supplier 1 URL: https://www.mouser.vn/ProductDetail/Wurth-Elektronik/61004021821?qs=ulEaXIWI0c8dfRNq4HxjEg%3D%3D; Supplier 2 URL: N/A; Supplier 3 URL: N/A; Mount: SMD/SMT; Operating Temperature Max: + 85 C; Operating Temperature Min: - 25 C; Supplier 1: Mouser; Supplier 1 Part Number: 710-61004021821; Supplier 2: Digi-Key; Supplier 2 Part Number: N/A; Supplier 3: thegioiic; Supplier 3 Part Number: N/A; Value: 3A, 250 V (AC); LCSC Part #: N/A
footprint 61004021821
pins: 1, 2, 3, 4, 5, 6, 7, 8, 9, 10, 11, 12, 13, 14, 15, 16, 17, 18, 19, 20, 21, 22, 23, 24, 25, 26, 27, 28, 29, 30, 31, 32, 33, 34, 35, 36, 37, 38, 39, 40

## 61030421821
designator J?, comment 3A, 250 V (AC)
WR-PHD Socket Header, SMT, pitch 2.54mm, Dual Row, Vertical, 4p; Manufacturer Part Number: 61030421821; Manufacturer: Wurth Elektronik; Pin Number: 4; Working Voltage: 250VAC; Withstanding Voltage: 600VAC; Contact Resistance: 20mOhm; ComponentLink1Description: Datasheet; ComponentLink1URL: https://www.we-online.com/catalog/datasheet/61030421821.pdf; Pitch: 2.54mm; Packaging: Tape and Reel; Gender: Socket Header; Rated Current: 3A; Row Number: Dual; Orientation: Vertical; Supplier 1 URL: https://www.mouser.vn/ProductDetail/Wurth-Elektronik/61030421821?qs=Cb2nCFKsA8qia6BOBEYewg%3D%3D; Supplier 2 URL: N/A; Supplier 3 URL: N/A; Mount: SMD/SMT; Operating Temperature Max: + 85 C; Operating Temperature Min: - 25 C; Supplier 1: Mouser; Supplier 1 Part Number: 710-61030421821; Supplier 2: Digi-Key; Supplier 2 Part Number: N/A; Supplier 3: thegioiic; Supplier 3 Part Number: N/A; Value: 3A, 250 V (AC); LCSC Part #: N/A
footprint 61030421821
pins: 1, 2, 3, 4

## 61030621821
designator J?, comment 3A, 250 V (AC)
WR-PHD Socket Header, SMT, pitch 2.54mm, Dual Row, Vertical, 6p; Manufacturer Part Number: 61030621821; Manufacturer: Wurth Elektronik; Pin Number: 6; Working Voltage: 250VAC; Withstanding Voltage: 600VAC; Contact Resistance: 20mOhm; ComponentLink1Description: Datasheet; ComponentLink1URL: https://www.we-online.com/catalog/datasheet/61030621821.pdf; Pitch: 2.54mm; Packaging: Tape and Reel; Gender: Socket Header; Rated Current: 3A; Row Number: Dual; Orientation: Vertical; Supplier 1 URL: https://www.mouser.vn/ProductDetail/Wurth-Elektronik/61030621821?qs=Cb2nCFKsA8prWiqa1E1TsA%3D%3D; Supplier 2 URL: N/A; Supplier 3 URL: N/A; Mount: SMD/SMT; Operating Temperature Max: + 85 C; Operating Temperature Min: - 25 C; Supplier 1: Mouser; Supplier 1 Part Number: 710-61030621821; Supplier 2: Digi-Key; Supplier 2 Part Number: N/A; Supplier 3: thegioiic; Supplier 3 Part Number: N/A; Value: 3A, 250 V (AC); LCSC Part #: N/A
footprint 61030621821
pins: 1, 2, 3, 4, 5, 6

## 61030821821
designator J?, comment 3A, 250 V (AC)
WR-PHD Socket Header, SMT, pitch 2.54mm, Dual Row, Vertical, 8p; Manufacturer Part Number: 61030821821; Manufacturer: Wurth Elektronik; Pin Number: 8; Working Voltage: 250VAC; Withstanding Voltage: 600VAC; Contact Resistance: 20mOhm; ComponentLink1Description: Datasheet; ComponentLink1URL: https://www.we-online.com/catalog/datasheet/61030821821.pdf; Pitch: 2.54mm; Packaging: Tape and Reel; Gender: Socket Header; Rated Current: 3A; Row Number: Dual; Orientation: Vertical; Supplier 1 URL: https://www.mouser.vn/ProductDetail/Wurth-Elektronik/61030821821?qs=Cb2nCFKsA8oJEHHhLPQ3%2Fg%3D%3D; Supplier 2 URL: N/A; Supplier 3 URL: N/A; Mount: SMD/SMT; Operating Temperature Max: + 85 C; Operating Temperature Min: - 25 C; Supplier 1: Mouser; Supplier 1 Part Number: 710-61030821821; Supplier 2: Digi-Key; Supplier 2 Part Number: N/A; Supplier 3: thegioiic; Supplier 3 Part Number: N/A; Value: 3A, 250 V (AC); LCSC Part #: N/A
footprint 61030821821
pins: 1, 2, 3, 4, 5, 6, 7, 8

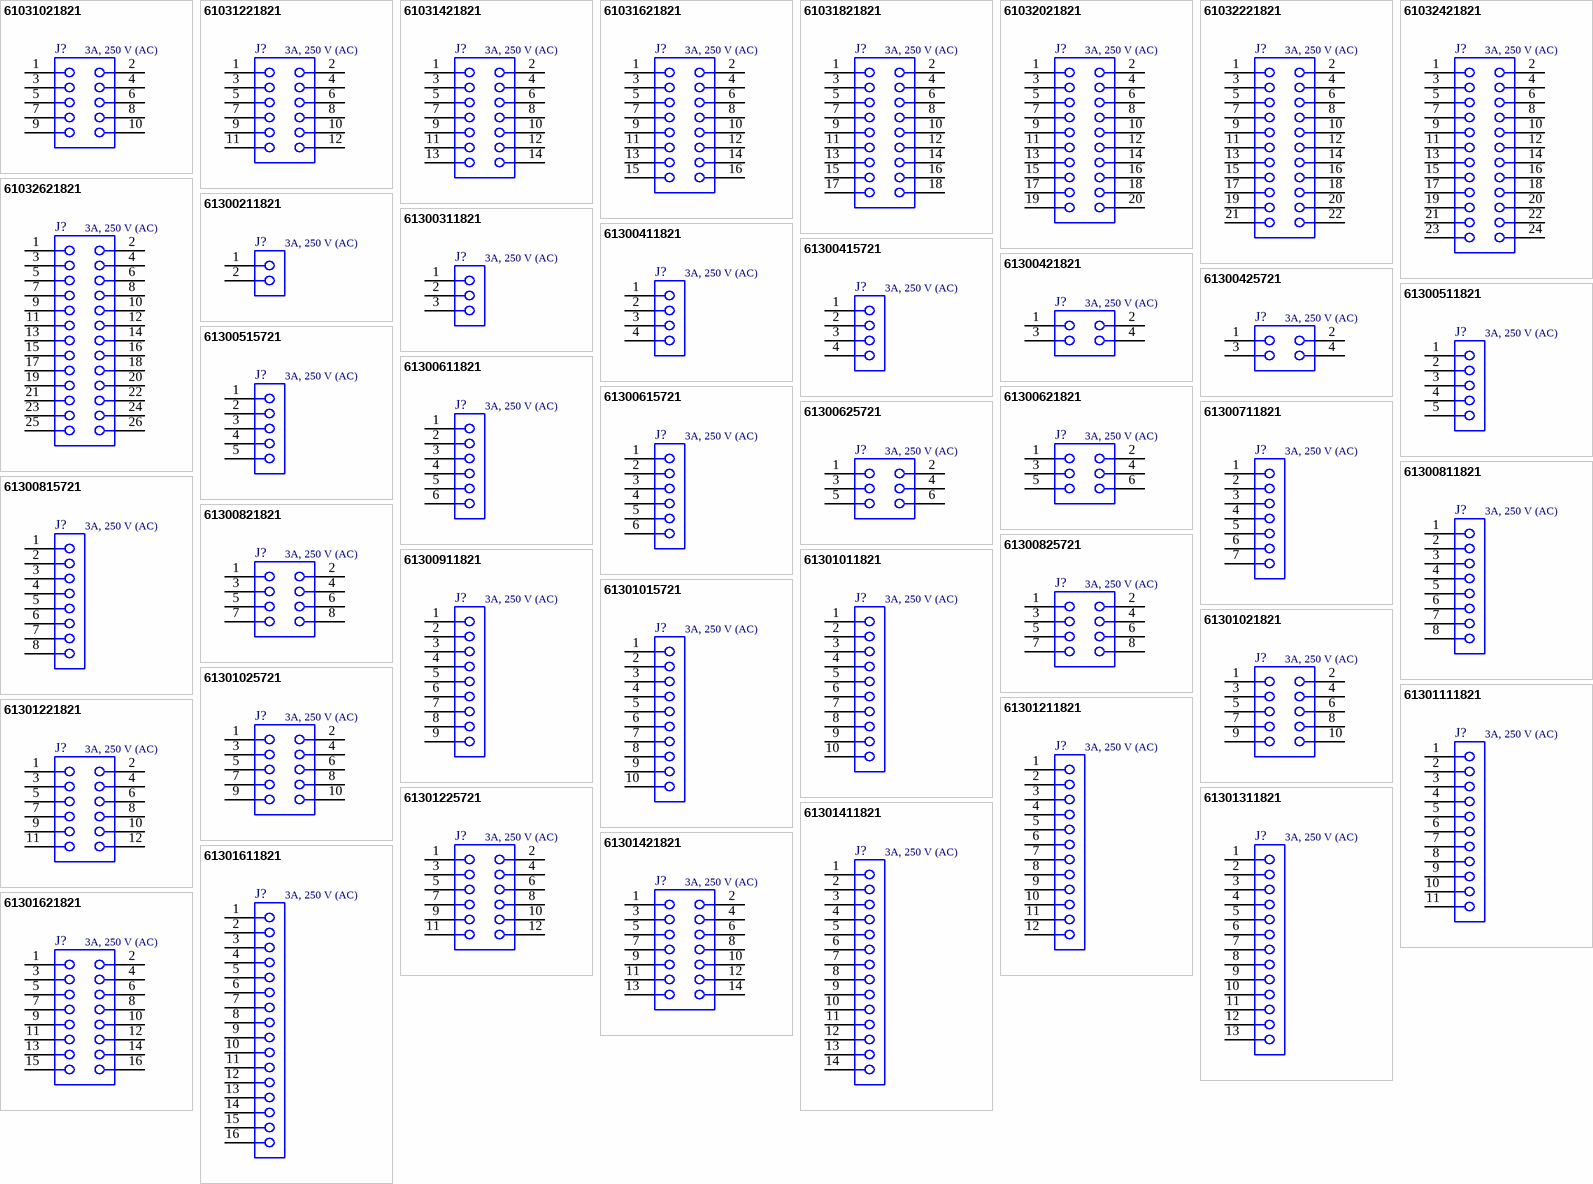
[diagram p1: symbols 61031021821 to 61301621821]

## 61031021821
designator J?, comment 3A, 250 V (AC)
WR-PHD Socket Header, SMT, pitch 2.54mm, Dual Row, Vertical, 10p; Manufacturer Part Number: 61031021821; Manufacturer: Wurth Elektronik; Pin Number: 10; Working Voltage: 250VAC; Withstanding Voltage: 600VAC; Contact Resistance: 20mOhm; ComponentLink1Description: Datasheet; ComponentLink1URL: https://www.we-online.com/catalog/datasheet/61031021821.pdf; Pitch: 2.54mm; Packaging: Tape and Reel; Gender: Socket Header; Rated Current: 3A; Row Number: Dual; Orientation: Vertical; Supplier 1 URL: https://www.mouser.vn/ProductDetail/Wurth-Elektronik/61031021821?qs=Cb2nCFKsA8qcYgZIDjCpgw%3D%3D; Supplier 2 URL: N/A; Supplier 3 URL: N/A; Mount: SMD/SMT; Operating Temperature Max: + 85 C; Operating Temperature Min: - 25 C; Supplier 1: Mouser; Supplier 1 Part Number: 710-61031021821; Supplier 2: Digi-Key; Supplier 2 Part Number: N/A; Supplier 3: thegioiic; Supplier 3 Part Number: N/A; Value: 3A, 250 V (AC); LCSC Part #: N/A
footprint 61031021821
pins: 1, 2, 3, 4, 5, 6, 7, 8, 9, 10

## 61031221821
designator J?, comment 3A, 250 V (AC)
WR-PHD Socket Header, SMT, pitch 2.54mm, Dual Row, Vertical, 12p; Manufacturer Part Number: 61031221821; Manufacturer: Wurth Elektronik; Pin Number: 12; Working Voltage: 250VAC; Withstanding Voltage: 600VAC; Contact Resistance: 20mOhm; ComponentLink1Description: Datasheet; ComponentLink1URL: https://www.we-online.com/catalog/datasheet/61031221821.pdf; Pitch: 2.54mm; Packaging: Tape and Reel; Gender: Socket Header; Rated Current: 3A; Row Number: Dual; Orientation: Vertical; Supplier 1 URL: https://www.mouser.vn/ProductDetail/Wurth-Elektronik/61031221821?qs=Cb2nCFKsA8qsJuA9v2g26A%3D%3D; Supplier 2 URL: N/A; Supplier 3 URL: N/A; Mount: SMD/SMT; Operating Temperature Max: + 85 C; Operating Temperature Min: - 25 C; Supplier 1: Mouser; Supplier 1 Part Number: 710-61031221821; Supplier 2: Digi-Key; Supplier 2 Part Number: N/A; Supplier 3: thegioiic; Supplier 3 Part Number: N/A; Value: 3A, 250 V (AC); LCSC Part #: N/A
footprint 61031221821
pins: 1, 2, 3, 4, 5, 6, 7, 8, 9, 10, 11, 12

## 61031421821
designator J?, comment 3A, 250 V (AC)
WR-PHD Socket Header, SMT, pitch 2.54mm, Dual Row, Vertical, 14p; Manufacturer Part Number: 61031421821; Manufacturer: Wurth Elektronik; Pin Number: 14; Working Voltage: 250VAC; Withstanding Voltage: 600VAC; Contact Resistance: 20mOhm; ComponentLink1Description: Datasheet; ComponentLink1URL: https://www.we-online.com/catalog/datasheet/61031421821.pdf; Pitch: 2.54mm; Packaging: Tape and Reel; Gender: Socket Header; Rated Current: 3A; Row Number: Dual; Orientation: Vertical; Supplier 1 URL: https://www.mouser.vn/ProductDetail/Wurth-Elektronik/61031421821?qs=Cb2nCFKsA8qHAeTIHF9TUw%3D%3D; Supplier 2 URL: N/A; Supplier 3 URL: N/A; Mount: SMD/SMT; Operating Temperature Max: + 85 C; Operating Temperature Min: - 25 C; Supplier 1: Mouser; Supplier 1 Part Number: 710-61031421821; Supplier 2: Digi-Key; Supplier 2 Part Number: N/A; Supplier 3: thegioiic; Supplier 3 Part Number: N/A; Value: 3A, 250 V (AC); LCSC Part #: N/A
footprint 61031421821
pins: 1, 2, 3, 4, 5, 6, 7, 8, 9, 10, 11, 12, 13, 14

## 61031621821
designator J?, comment 3A, 250 V (AC)
WR-PHD Socket Header, SMT, pitch 2.54mm, Dual Row, Vertical, 16p; Manufacturer Part Number: 61031621821; Manufacturer: Wurth Elektronik; Pin Number: 16; Working Voltage: 250VAC; Withstanding Voltage: 600VAC; Contact Resistance: 20mOhm; ComponentLink1Description: Datasheet; ComponentLink1URL: https://www.we-online.com/catalog/datasheet/61031621821.pdf; Pitch: 2.54mm; Packaging: Tape and Reel; Gender: Socket Header; Rated Current: 3A; Row Number: Dual; Orientation: Vertical; Supplier 1 URL: https://www.mouser.vn/ProductDetail/Wurth-Elektronik/61031621821?qs=Cb2nCFKsA8q471rRM1wFvg%3D%3D; Supplier 2 URL: N/A; Supplier 3 URL: N/A; Mount: SMD/SMT; Operating Temperature Max: + 85 C; Operating Temperature Min: - 25 C; Supplier 1: Mouser; Supplier 1 Part Number: 710-61031621821; Supplier 2: Digi-Key; Supplier 2 Part Number: N/A; Supplier 3: thegioiic; Supplier 3 Part Number: N/A; Value: 3A, 250 V (AC); LCSC Part #: N/A
footprint 61031621821
pins: 1, 2, 3, 4, 5, 6, 7, 8, 9, 10, 11, 12, 13, 14, 15, 16

## 61031821821
designator J?, comment 3A, 250 V (AC)
WR-PHD Socket Header, SMT, pitch 2.54mm, Dual Row, Vertical, 18p; Manufacturer Part Number: 61031821821; Manufacturer: Wurth Elektronik; Pin Number: 18; Working Voltage: 250VAC; Withstanding Voltage: 600VAC; Contact Resistance: 20mOhm; ComponentLink1Description: Datasheet; ComponentLink1URL: https://www.we-online.com/catalog/datasheet/61031821821.pdf; Pitch: 2.54mm; Packaging: Tape and Reel; Gender: Socket Header; Rated Current: 3A; Row Number: Dual; Orientation: Vertical; Supplier 1 URL: https://www.mouser.vn/ProductDetail/Wurth-Elektronik/61031821821?qs=Cb2nCFKsA8rmBsHKWKYZQA%3D%3D; Supplier 2 URL: N/A; Supplier 3 URL: N/A; Mount: SMD/SMT; Operating Temperature Max: + 85 C; Operating Temperature Min: - 25 C; Supplier 1: Mouser; Supplier 1 Part Number: 710-61031821821; Supplier 2: Digi-Key; Supplier 2 Part Number: N/A; Supplier 3: thegioiic; Supplier 3 Part Number: N/A; Value: 3A, 250 V (AC); LCSC Part #: N/A
footprint 61031821821
pins: 1, 2, 3, 4, 5, 6, 7, 8, 9, 10, 11, 12, 13, 14, 15, 16, 17, 18

## 61032021821
designator J?, comment 3A, 250 V (AC)
WR-PHD Socket Header, SMT, pitch 2.54mm, Dual Row, Vertical, 20p; Manufacturer Part Number: 61032021821; Manufacturer: Wurth Elektronik; Pin Number: 20; Working Voltage: 250VAC; Withstanding Voltage: 600VAC; Contact Resistance: 20mOhm; ComponentLink1Description: Datasheet; ComponentLink1URL: https://www.we-online.com/catalog/datasheet/61032021821.pdf; Pitch: 2.54mm; Packaging: Tape and Reel; Gender: Socket Header; Rated Current: 3A; Row Number: Dual; Orientation: Vertical; Supplier 1 URL: https://www.mouser.vn/ProductDetail/Wurth-Elektronik/61032021821?qs=Cb2nCFKsA8rLJ0ZbRtJw1w%3D%3D; Supplier 2 URL: N/A; Supplier 3 URL: N/A; Mount: SMD/SMT; Operating Temperature Max: + 85 C; Operating Temperature Min: - 25 C; Supplier 1: Mouser; Supplier 1 Part Number: 710-61032021821; Supplier 2: Digi-Key; Supplier 2 Part Number: N/A; Supplier 3: thegioiic; Supplier 3 Part Number: N/A; Value: 3A, 250 V (AC); LCSC Part #: N/A
footprint 61032021821
pins: 1, 2, 3, 4, 5, 6, 7, 8, 9, 10, 11, 12, 13, 14, 15, 16, 17, 18, 19, 20

## 61032221821
designator J?, comment 3A, 250 V (AC)
WR-PHD Socket Header, SMT, pitch 2.54mm, Dual Row, Vertical, 22p; Manufacturer Part Number: 61032221821; Manufacturer: Wurth Elektronik; Pin Number: 22; Working Voltage: 250VAC; Withstanding Voltage: 600VAC; Contact Resistance: 20mOhm; ComponentLink1Description: Datasheet; ComponentLink1URL: https://www.we-online.com/catalog/datasheet/61032221821.pdf; Pitch: 2.54mm; Packaging: Tape and Reel; Gender: Socket Header; Rated Current: 3A; Row Number: Dual; Orientation: Vertical; Supplier 1 URL: https://www.mouser.vn/ProductDetail/Wurth-Elektronik/61032221821?qs=Cb2nCFKsA8qW4qBuZ0b3kQ%3D%3D; Supplier 2 URL: N/A; Supplier 3 URL: N/A; Mount: SMD/SMT; Operating Temperature Max: + 85 C; Operating Temperature Min: - 25 C; Supplier 1: Mouser; Supplier 1 Part Number: 710-61032221821; Supplier 2: Digi-Key; Supplier 2 Part Number: N/A; Supplier 3: thegioiic; Supplier 3 Part Number: N/A; Value: 3A, 250 V (AC); LCSC Part #: N/A
footprint 61032221821
pins: 1, 2, 3, 4, 5, 6, 7, 8, 9, 10, 11, 12, 13, 14, 15, 16, 17, 18, 19, 20, 21, 22

## 61032421821
designator J?, comment 3A, 250 V (AC)
WR-PHD Socket Header, SMT, pitch 2.54mm, Dual Row, Vertical, 24p; Manufacturer Part Number: 61032421821; Manufacturer: Wurth Elektronik; Pin Number: 24; Working Voltage: 250VAC; Withstanding Voltage: 600VAC; Contact Resistance: 20mOhm; ComponentLink1Description: Datasheet; ComponentLink1URL: https://www.we-online.com/catalog/datasheet/61032421821.pdf; Pitch: 2.54mm; Packaging: Tape and Reel; Gender: Socket Header; Rated Current: 3A; Row Number: Dual; Orientation: Vertical; Supplier 1 URL: https://www.mouser.vn/ProductDetail/Wurth-Elektronik/61032421821?qs=Cb2nCFKsA8olwuXV8WYPMw%3D%3D; Supplier 2 URL: N/A; Supplier 3 URL: N/A; Mount: SMD/SMT; Operating Temperature Max: + 85 C; Operating Temperature Min: - 25 C; Supplier 1: Mouser; Supplier 1 Part Number: 710-61032421821; Supplier 2: Digi-Key; Supplier 2 Part Number: N/A; Supplier 3: thegioiic; Supplier 3 Part Number: N/A; Value: 3A, 250 V (AC); LCSC Part #: N/A
footprint 61032421821
pins: 1, 2, 3, 4, 5, 6, 7, 8, 9, 10, 11, 12, 13, 14, 15, 16, 17, 18, 19, 20, 21, 22, 23, 24

## 61032621821
designator J?, comment 3A, 250 V (AC)
WR-PHD Socket Header, SMT, pitch 2.54mm, Dual Row, Vertical, 26p; Manufacturer Part Number: 61032621821; Manufacturer: Wurth Elektronik; Pin Number: 26; Working Voltage: 250VAC; Withstanding Voltage: 600VAC; Contact Resistance: 20mOhm; ComponentLink1Description: Datasheet; ComponentLink1URL: https://www.we-online.com/catalog/datasheet/61032621821.pdf; Pitch: 2.54mm; Packaging: Tape and Reel; Gender: Socket Header; Rated Current: 3A; Row Number: Dual; Orientation: Vertical; Supplier 1 URL: https://www.mouser.vn/ProductDetail/Wurth-Elektronik/61032621821?qs=Cb2nCFKsA8oBDbi7tvYqZA%3D%3D; Supplier 2 URL: N/A; Supplier 3 URL: N/A; Mount: SMD/SMT; Operating Temperature Max: + 85 C; Operating Temperature Min: - 25 C; Supplier 1: Mouser; Supplier 1 Part Number: 710-61032621821; Supplier 2: Digi-Key; Supplier 2 Part Number: N/A; Supplier 3: thegioiic; Supplier 3 Part Number: N/A; Value: 3A, 250 V (AC); LCSC Part #: N/A
footprint 61032621821
pins: 1, 2, 3, 4, 5, 6, 7, 8, 9, 10, 11, 12, 13, 14, 15, 16, 17, 18, 19, 20, 21, 22, 23, 24, 25, 26